# Altium schematic symbol library tps54561qdprtq1.SchLib: 1 symbol
Pins are listed as number, name and electrical type; pins without a type are passive.

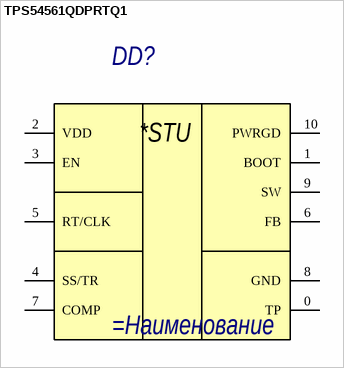
[diagram p0: symbol TPS54561QDPRTQ1]

## TPS54561QDPRTQ1
designator DD?
=Описание
pins: 0 TP, 1 BOOT, 2 VDD, 3 EN, 4 SS/TR, 5 RT/CLK, 6 FB, 7 COMP, 8 GND, 9 SW, 10 PWRGD
text: *STU